# Altium footprint library RyanMasterLib.PcbLib: 41 footprints (part 1 of 3)
Each footprint in its own frame and in the unit in brackets; x right, y up, seen from the top. Pads: shape width x height; smd on the part's side, far side on the other; paste and mask are expansions set on the pad; w line width, h text height; cw(c..) or ccw(c..) is an arc to the next point about the centre after c.
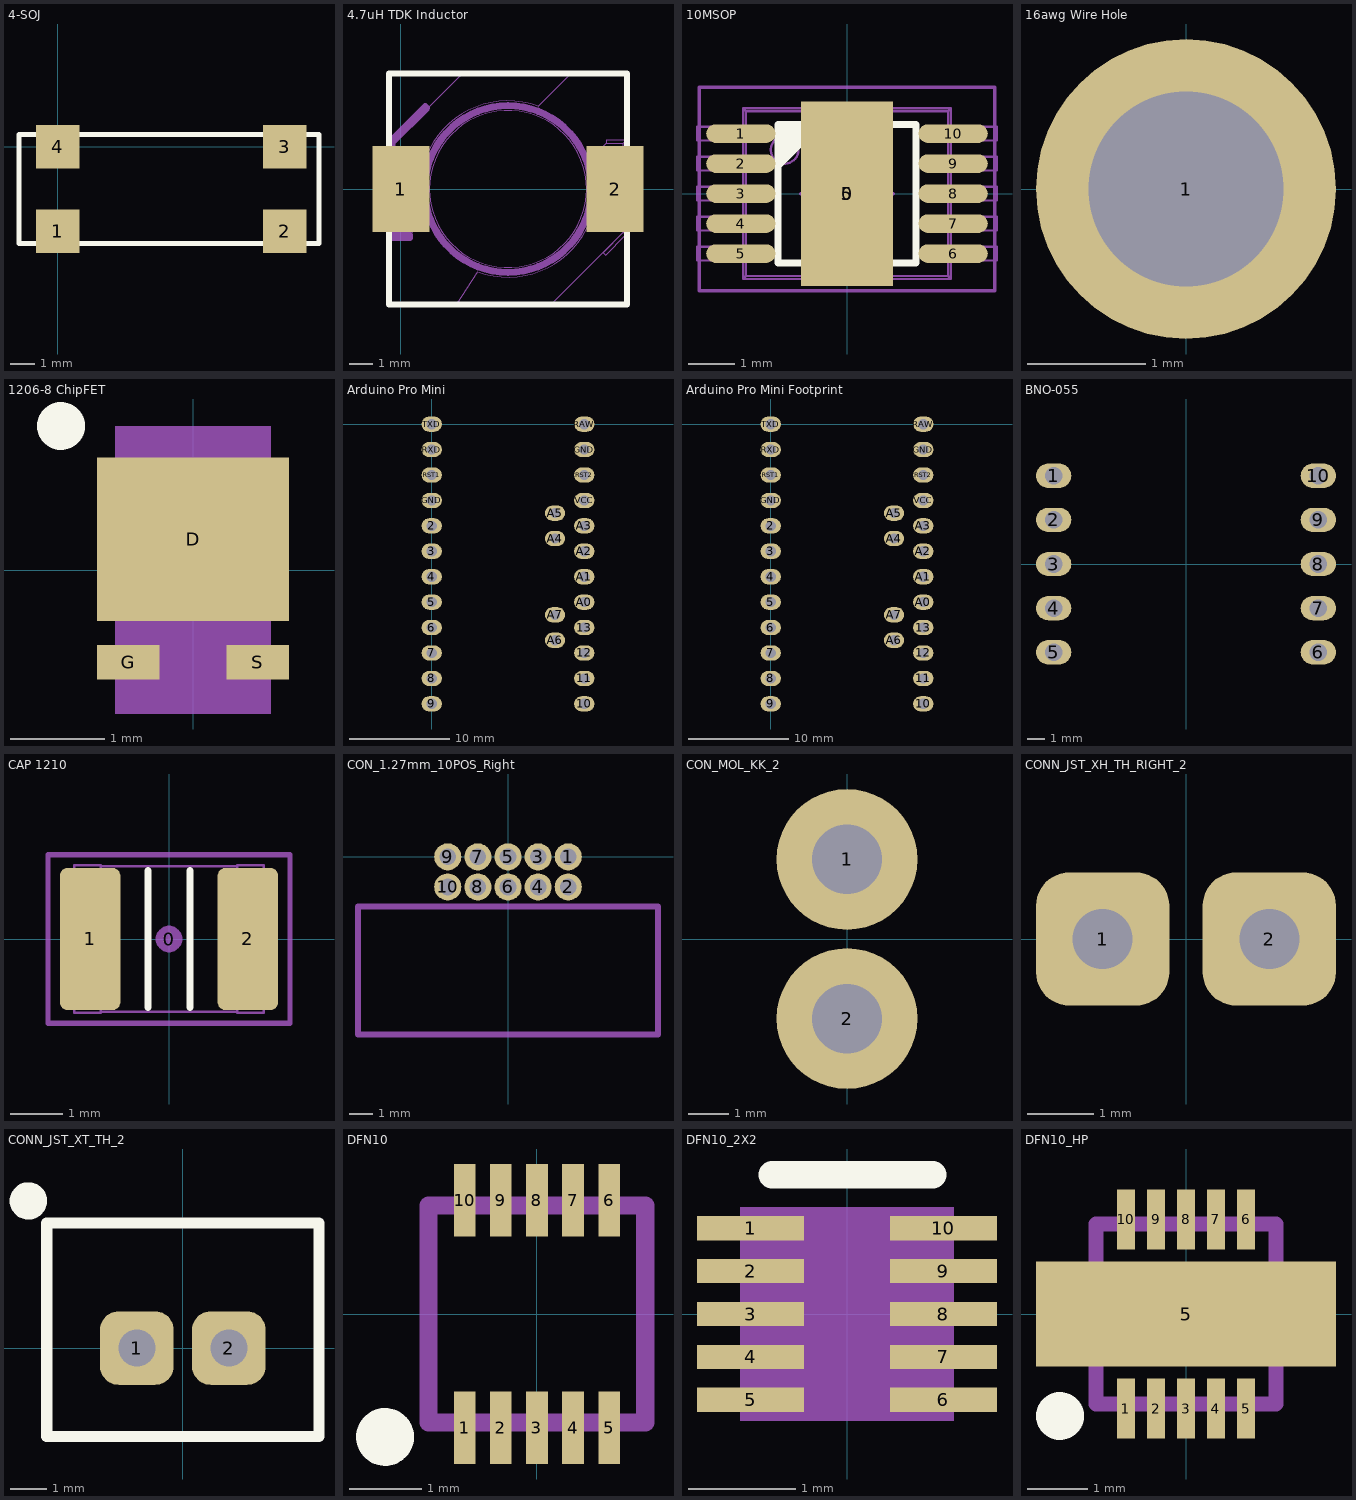
[diagram p0: the footprints below, top view; thin cyan lines are the x and y axes]

## 4-SOJ [mm]
height 3.7
pads (4):
  rect 1.8x1.8 smd: 1(0,-3.5) 2(9.4,-3.5) 3(9.4,0) 4(0,0)
Top Overlay:
  lines w0.2: 10.795,0.5 -1.6,0.5 -1.6,-4 -0.1,-4 10.82,-4 10.82,0.5

## 4.7uH TDK Inductor [mm]
height 7
pads (2):
  rect 2.4x3.6 smd: 1(0,0) 2(9,0)
Top Overlay:
  lines w0.254: -0.5,-4.85 9.5,-4.85 9.5,4.85 -0.5,4.85 -0.5,-4.85
Mechanical 13:
  circle w0.025: c4.5,0 r3.3
  circle w0.3: c4.5,0 r3.5
  lines w0.025: 9.35,-1.725 9.35,-1.825 ; -0.35,-1.914 0.375,-1.914 ; -0.35,-1.914 0.375,-1.914 ; -0.35,-1.914 -0.35,1.925 2.575,4.85 7.139,4.85 5.765,3.477 ccw(c4.5,0) 1.023,-1.265 0.375,-1.914 ; 9.35,-1.825 6.325,-4.85 2.358,-4.85 3.235,-3.477 ccw(c4.5,0) 7.977,1.265 8.636,1.925 9.35,1.925 9.35,-1.825
Mechanical 15:
  lines w0.025: 9.5,-1.875 9.5,2.075 ; 9.35,-1.825 9.35,1.925 ; 9.35,-1.825 9.35,1.925 ; 9.35,-1.825 8.5,-2.675 8.6,-2.775 9.45,-1.925 9.35,-1.825 ; 9.35,1.925 9.5,2.075 ; 9.35,1.925 8.65,1.925 8.65,2.075 9.5,2.075
  lines w0.254: -0.35,1.95 1.1,3.4 ; -0.35,2.075 -0.35,-1.925 0.375,-1.925 0.375,-2.05 -0.5,-2.05 -0.5,1.95 1.025,3.475 1.1,3.4 ; 1.1,3.4 1.1,3.4
3D body: height 4, standoff 0, extent 1.201,-3.299 7.799,3.299
3D body: height 4, standoff 0, extent 2.357,-4.851 9.351,1.926
3D body: height 3.8, standoff 0, extent 1.014,-3.5 8.013,3.499
3D body: height 3.75, standoff 0, extent 8.5,-2.788 9.513,2.088
3D body: height 4, standoff 0, extent -0.351,-1.914 7.139,4.851
3D body: height 7, standoff 0, extent 8.5,-2.675 8.5,-2.675
3D body: height 3.75, standoff 0, extent -0.501,-2.051 1.101,3.476

## 10MSOP [mm] "TSSOP, 10 Leads, Body 3.7x4.5mm (max), Pitch 0.65mm, IPC Medium Density"
height 1.2
pads (12):
  round 0.508 on Mech15: 0(0,0)
  oval 1.5x0.4 smd paste-0.051: 1(-2.3,1.3) 2(-2.3,0.65) 3(-2.3,0) 4(-2.3,-0.65) 5(-2.3,-1.3) 6(2.3,-1.3) 7(2.3,-0.65) 8(2.3,0) 9(2.3,0.65) 10(2.3,1.3)
  rect 2x4 smd: 5(0,0)
Top Overlay:
  region: -1.5,1.5 -0.5,1.5 -1.5,0.5
  lines w0.152: -1.5,-1.5 1.5,-1.5 1.5,1.5 -1.5,1.5 -1.5,-1.5
  text "." at -2.85,2.025 h0.1
Top Solder:
  region: 2.9,1.3 1.7,1.3 1.7,-1.3 2.9,-1.3
  rectangle: -2.9,-1.3 -1.7,1.3
Mechanical 13:
  circle w0.05: c-1.35,0.95 r0.3
  lines w0.05: -2.839,-1.45 -2.839,-1.15 ; -2.839,-0.8 -2.839,-0.5 ; -2.839,-0.15 -2.839,0.15 ; -2.839,0.5 -2.839,0.8 ; -2.839,1.15 -2.839,1.45 ; -2.795,-1.45 -2.795,-1.15 ; -2.795,-0.8 -2.795,-0.5 ; -2.795,-0.15 -2.795,0.15 ; -2.795,0.5 -2.795,0.8 ; -2.795,1.15 -2.795,1.45 ; -2.693,-1.45 -2.693,-1.15 ; -2.693,-0.8 -2.693,-0.5 ; -2.693,-0.15 -2.693,0.15 ; -2.693,0.5 -2.693,0.8 ; -2.693,1.15 -2.693,1.45 ; -2.5,-1.45 -2.5,-1.15 ; -2.5,-0.8 -2.5,-0.5 ; -2.5,-0.15 -2.5,0.15 ; -2.5,0.5 -2.5,0.8 ; -2.5,1.15 -2.5,1.45 ; -2.25,-1.45 -3.25,-1.45 -3.25,-1.15 -2.25,-1.15 ; -2.25,-0.8 -3.25,-0.8 -3.25,-0.5 -2.25,-0.5 ; -2.25,-0.15 -3.25,-0.15 -3.25,0.15 -2.25,0.15 ; -2.25,0.5 -3.25,0.5 -3.25,0.8 -2.25,0.8 ; -2.25,1.15 -3.25,1.15 -3.25,1.45 -2.25,1.45 ; 2.25,-1.45 3.25,-1.45 3.25,-1.15 2.25,-1.15 ; 2.25,-0.8 3.25,-0.8 3.25,-0.5 2.25,-0.5 ; 2.25,-0.15 3.25,-0.15 3.25,0.15 2.25,0.15 ; 2.25,0.5 3.25,0.5 3.25,0.8 2.25,0.8 ; 2.25,1.15 3.25,1.15 3.25,1.45 2.25,1.45 ; 2.5,-1.45 2.5,-1.15 ; 2.5,-0.8 2.5,-0.5 ; 2.5,-0.15 2.5,0.15 ; 2.5,0.5 2.5,0.8 ; 2.5,1.15 2.5,1.45 ; 2.693,-1.45 2.693,-1.15 ; 2.693,-0.8 2.693,-0.5 ; 2.693,-0.15 2.693,0.15 ; 2.693,0.5 2.693,0.8 ; 2.693,1.15 2.693,1.45 ; 2.795,-1.45 2.795,-1.15 ; 2.795,-0.8 2.795,-0.5 ; 2.795,-0.15 2.795,0.15 ; 2.795,0.5 2.795,0.8 ; 2.795,1.15 2.795,1.45 ; 2.839,-1.45 2.839,-1.15 ; 2.839,-0.8 2.839,-0.5 ; 2.839,-0.15 2.839,0.15 ; 2.839,0.5 2.839,0.8 ; 2.839,1.15 2.839,1.45 ; -2.25,-1.85 2.25,-1.85 ; -2.25,-1.85 -2.187,-1.787 ; -2.25,-1.85 -2.25,1.85 ; -2.25,1.85 -2.187,1.787 ; -2.25,1.85 2.25,1.85 ; -2.187,-1.787 2.187,-1.787 ; -2.187,-1.787 -2.187,1.787 ; -2.187,1.787 2.187,1.787 ; 2.187,-1.787 2.25,-1.85 ; 2.187,-1.787 2.187,1.787 ; 2.187,1.787 2.25,1.85 ; 2.25,-1.85 2.25,1.85
Mechanical 15:
  lines w0.076: -1,0 -0.5,0 ; 0,-1 0,-0.5 ; 0,0.5 0,1 ; 0.5,0 1,0 ; -3.2,-2.1 3.2,-2.1 3.2,2.3 -3.2,2.3 -3.2,-2.1
3D body: height 1.2, standoff 0, extent -1.499,-1.499 1.499,1.499

## 16awg Wire Hole [mil]
pads (1):
  round 100 hole 65: 1(0,0)

## 1206-8 ChipFET [mil]
height 40
pads (3):
  rect 80x68 smd: D(0,12.8)
  rect 26x14.4 smd: G(-27,-38.4) S(27,-38.4)
Top Overlay:
  circle w10: c-55,60 r5
Mechanical 13:
  rectangle: -32.5,-60 32.5,60
3D body: height 40, standoff 0, extent -32.5,-60 32.5,60

## Arduino Pro Mini [mil]
height 100
pads (28):
  oval 80x60 hole 40: 2(0,-400) 3(0,-500) 4(0,-600) 5(0,-700) 6(0,-800) 7(0,-900) 8(0,-1000) 9(0,-1100) 10(600,-1100) 11(600,-1000) 12(600,-900) 13(600,-800) A0(600,-700) A1(600,-600) A2(600,-500) A3(600,-400) A4(485,-450) A5(485,-350) A6(485,-850) A7(485,-750) GND(0,-300) GND(600,-100) RAW(600,0) RST1(0,-200) RST2(600,-200) RXD(0,-100) TXD(0,0) VCC(600,-300)
3D body "Arduino_pro_mini_(step_ap214).STEP": height 264.21, standoff -190.12, extent -53.35,-1149.21 653.35,150

## Arduino Pro Mini Footprint [mil]
height 100
pads (28):
  oval 80x60 hole 40: 2(0,-400) 3(0,-500) 4(0,-600) 5(0,-700) 6(0,-800) 7(0,-900) 8(0,-1000) 9(0,-1100) 10(600,-1100) 11(600,-1000) 12(600,-900) 13(600,-800) A0(600,-700) A1(600,-600) A2(600,-500) A3(600,-400) A4(485,-450) A5(485,-350) A6(485,-850) A7(485,-750) GND(0,-300) GND(600,-100) RAW(600,0) RST1(0,-200) RST2(600,-200) RXD(0,-100) TXD(0,0) VCC(600,-300)

## BNO-055 [mil] "9-axis motion sensor with hardware fusion"
height 100
pads (10):
  oval 80x55 hole 40: 1(-300,200) 2(-300,100) 3(-300,0) 4(-300,-100) 5(-300,-200) 6(300,-200) 7(300,-100) 8(300,0) 9(300,100) 10(300,200)
3D body "IMU214.STEP": height 262.99, standoff -128, extent -350,-250 350,250

## CAP 1210 [mm] "Chip Capacitor, Body 3.2x2.5mm, EIA 1210, IPC Medium Density"
height 2.794
pads (3):
  round 0.508 on Mech15: 0(0,0)
  rrect25% 1.15x2.7 smd: 1(-1.5,0) 2(1.5,0)
Top Overlay:
  lines w0.127: -0.4,-1.3 -0.4,1.3 ; 0.4,-1.3 0.4,1.3
Mechanical 13:
  lines w0.05: -1.3,-1.38 1.3,-1.38 ; -1.3,1.38 1.3,1.38 ; -1.8,-1.4 -1.8,1.4 -1.3,1.4 -1.3,-1.4 -1.8,-1.4 ; 1.3,-1.4 1.8,-1.4 1.8,1.4 1.3,1.4 1.3,-1.4
Mechanical 15:
  lines w0.1: -2.3,-1.6 2.3,-1.6 2.3,1.6 -2.3,1.6 -2.3,-1.6
3D body "CAP_1210.STEP": height 2.79, standoff -0.01, extent -1.8,-1.4 1.8,1.4

## CON_1.27mm_10POS_Right [mil] "BOX HEADER, 0.050 10 POS"
height 200.79
pads (10):
  round 45 hole 27.56: 1(100,0) 2(100,-50) 3(50,0) 4(50,-50) 5(0,0) 6(0,-50) 7(-50,0) 8(-50,-50) 9(-100,0) 10(-100,-50)
Mechanical 13:
  lines w10: -249.02,-295.28 -249.02,-82.68 249.02,-82.68 249.02,-295.28 -249.02,-295.28
3D body: height 200.79, standoff 0, extent -254.02,-300.28 254.02,-77.68

## CON_MOL_KK_2 [mm] "KK RPC 100 HDR FRLK RTAN 02 CKT"
height 10.01
pads (2):
  round 3.5 hole 1.73: 1(0,1.98) 2(0,-1.98)
3D body "MOLEXCON.STEP": height 10.11, standoff -2.44, extent -20.066,-3.912 0.533,3.861

## CONN_JST_XH_TH_RIGHT_2 [mm] "CONN HEADER XH TOP 2POS 2.5MM"
height 7
pads (2):
  rrect50% 2x2 hole 0.9: 1(-1.25,0) 2(1.25,0)
3D body "S2B-XH-A.STEP": height 5.95, standoff -3.4, extent -3.7,-9.25 3.7,2.25

## CONN_JST_XT_TH_2 [mm] "CONN HEADER XH TOP 2POS 2.5MM"
height 7
pads (2):
  rrect50% 2x2 hole 1: 1(-1.25,0) 2(1.25,0)
Top Overlay:
  circle w0.508: c-4.2,4 r0.254
  lines w0.305: -3.7,-2.4 3.7,-2.4 3.7,3.4 -3.7,3.4 -3.7,-2.4
3D body "B2B-XH-A.STEP": height 2.9, standoff -7.5, extent -3.7,-2.35 3.7,3.4

## DFN10 [mm]
pads (10):
  rect 0.3x1 smd: 1(-1,-1.575) 2(-0.5,-1.575) 3(0,-1.575) 4(0.5,-1.575) 5(1,-1.575) 6(1,1.575) 7(0.5,1.575) 8(0,1.575) 9(-0.5,1.575) 10(-1,1.575)
Top Overlay:
  circle w0.4: c-2.1,-1.7 r0.2
Mechanical 13:
  lines w0.254: -1.5,-1.5 1.5,-1.5 1.5,1.5 -1.5,1.5 -1.5,-1.5
3D body: height 0.9, standoff 0.1, extent -1.499,-1.499 1.499,1.499

## DFN10_2X2 [mm]
pads (10):
  rect 1x0.225 smd: 1(-0.9,0.8) 2(-0.9,0.4) 3(-0.9,0) 4(-0.9,-0.4) 5(-0.9,-0.8) 6(0.9,-0.8) 7(0.9,-0.4) 8(0.9,0) 9(0.9,0.4) 10(0.9,0.8)
Top Overlay:
  lines w0.254: -0.7,1.3 0.8,1.3
Mechanical 13:
  rectangle: -1,-1 1,1
3D body: height 1, standoff 0, extent -1,-1 1,1

## DFN10_HP [mm]
pads (11):
  rect 0.3x1 smd: 1(-1,-1.575) 2(-0.5,-1.575) 3(0,-1.575) 4(0.5,-1.575) 5(1,-1.575) 6(1,1.575) 7(0.5,1.575) 8(0,1.575) 9(-0.5,1.575) 10(-1,1.575)
  rect 5x1.75 smd: 5(0,0)
Top Overlay:
  circle w0.4: c-2.1,-1.7 r0.2
Mechanical 13:
  lines w0.254: -1.5,-1.5 -1.5,1.5 1.5,1.5 1.5,-1.5 -1.5,-1.5
3D body: height 0.9, standoff 0.1, extent -1.499,-1.499 1.499,1.499